# EAGLE library part --MERGED_SPARTAN-II-XC2S30-100-VQFP (library proxmark3_exported_and_modified_components)
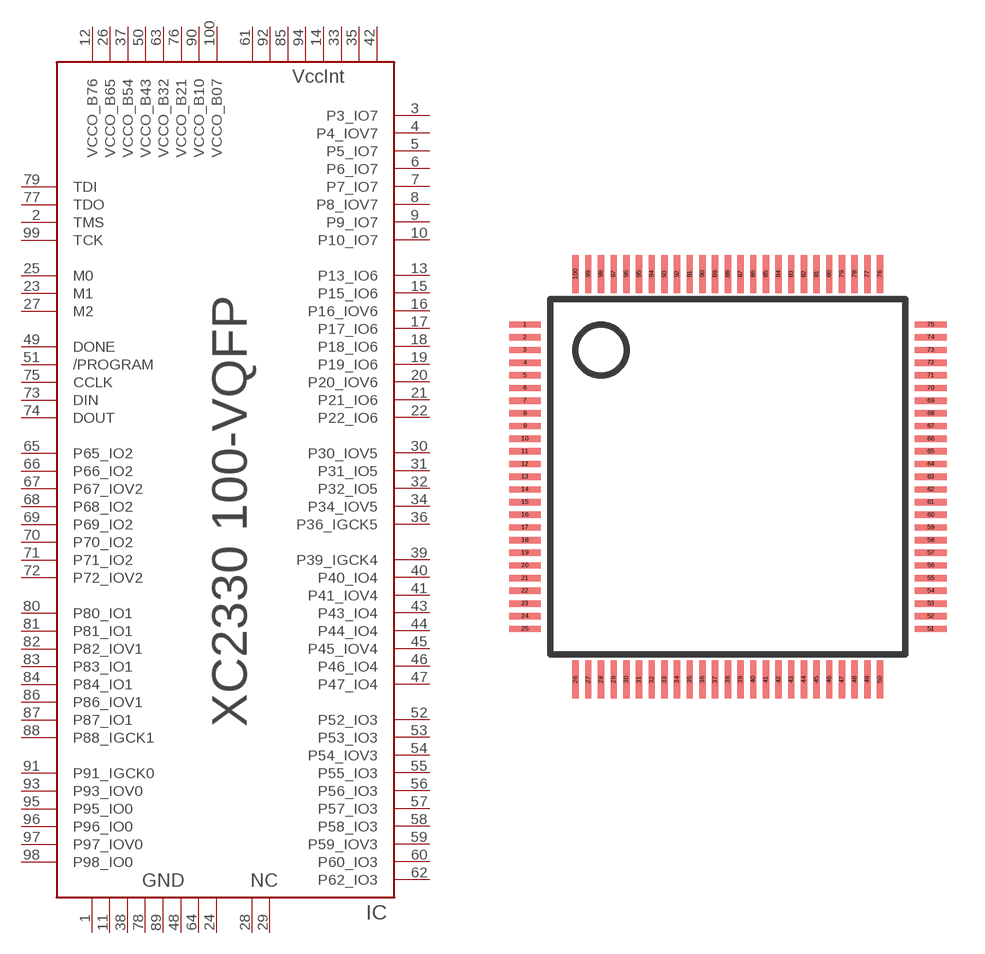
[diagram p11: symbol with the pads of --MERGED_VQFP-100; footprint --MERGED_VQFP-100]

Designator prefix IC

## --MERGED_SPARTAN-II-XC2S30-100-VQFP  [--MERGED_VQFP-100]
1  GND1
2  TMS
3  P3_IO7
4  P4_IOV7
5  P5_IO7
6  P6_IO7
7  P7_IO7
8  P8_IOV7
9  P9_IO7
10  P10_IO7
11  GND2
12  VCCO_B76
13  P13_IO6
14  VCCINT5
15  P15_IO6
16  P16_IOV6
17  P17_IO6
18  P18_IO6
19  P19_IO6
20  P20_IOV6
21  P21_IO6
22  P22_IO6
23  M1
24  GND8
25  M0
26  VCCO_B65
27  M2
28  NC0
29  NC1
30  P30_IOV5
31  P31_IO5
32  P32_IO5
33  VCCINT6
34  P34_IOV5
35  VCCINT7
36  P36_IGCK5
37  VCCO_B54
38  GND3
39  P39_IGCK4
40  P40_IO4
41  P41_IOV4
42  VCCINT8
43  P43_IO4
44  P44_IO4
45  P45_IOV4
46  P46_IO4
47  P47_IO4
48  GND6
49  DONE
50  VCCO_B43
51  /PROGRAM
52  P52_IO3
53  P53_IO3
54  P54_IOV3
55  P55_IO3
56  P56_IO3
57  P57_IO3
58  P58_IO3
59  P59_IOV3
60  P60_IO3
61  VCCINT1
62  P62_IO3
63  VCCO_B32
64  GND7
65  P65_IO2
66  P66_IO2
67  P67_IOV2
68  P68_IO2
69  P69_IO2
70  P70_IO2
71  P71_IO2
72  P72_IOV2
73  DIN
74  DOUT
75  CCLK
76  VCCO_B21
77  TDO
78  GND4
79  TDI
80  P80_IO1
81  P81_IO1
82  P82_IOV1
83  P83_IO1
84  P84_IO1
85  VCCINT3
86  P86_IOV1
87  P87_IO1
88  P88_IGCK1
89  GND5
90  VCCO_B10
91  P91_IGCK0
92  VCCINT2
93  P93_IOV0
94  VCCINT4
95  P95_IO0
96  P96_IO0
97  P97_IOV0
98  P98_IO0
99  TCK
100  VCCO_B07

## Footprint --MERGED_VQFP-100 (pad centres in mm)
smd 1.25 x 0.25: 1 -8,6; 2 -8,5.5; 3 -8,5; 4 -8,4.5; 5 -8,4; 6 -8,3.5; 7 -8,3; 8 -8,2.5; 9 -8,2; 10 -8,1.5; 11 -8,1; 12 -8,0.5; 13 -8,0; 14 -8,-0.5; 15 -8,-1; 16 -8,-1.5; 17 -8,-2; 18 -8,-2.5; 19 -8,-3; 20 -8,-3.5; 21 -8,-4; 22 -8,-4.5; 23 -8,-5; 24 -8,-5.5; 25 -8,-6; 51 8,-6; 52 8,-5.5; 53 8,-5; 54 8,-4.5; 55 8,-4; 56 8,-3.5; 57 8,-3; 58 8,-2.5; 59 8,-2; 60 8,-1.5; 61 8,-1; 62 8,-0.5; 63 8,0; 64 8,0.5; 65 8,1; 66 8,1.5; 67 8,2; 68 8,2.5; 69 8,3; 70 8,3.5; 71 8,4; 72 8,4.5; 73 8,5; 74 8,5.5; 75 8,6
smd 0.25 x 1.5: 26 -6,-8; 27 -5.5,-8; 28 -5,-8; 29 -4.5,-8; 30 -4,-8; 31 -3.5,-8; 32 -3,-8; 33 -2.5,-8; 34 -2,-8; 35 -1.5,-8; 36 -1,-8; 37 -0.5,-8; 38 0,-8; 39 0.5,-8; 40 1,-8; 41 1.5,-8; 42 2,-8; 43 2.5,-8; 44 3,-8; 45 3.5,-8; 46 4,-8; 47 4.5,-8; 48 5,-8; 49 5.5,-8; 50 6,-8; 76 6,8; 77 5.5,8; 78 5,8; 79 4.5,8; 80 4,8; 81 3.5,8; 82 3,8; 83 2.5,8; 84 2,8; 85 1.5,8; 86 1,8; 87 0.5,8; 88 0,8; 89 -0.5,8; 90 -1,8; 91 -1.5,8; 92 -2,8; 93 -2.5,8; 94 -3,8; 95 -3.5,8; 96 -4,8; 97 -4.5,8; 98 -5,8; 99 -5.5,8; 100 -6,8